# EAGLE library part GN?* (library relay)
ULTRA-SMALL PACKAGE SLIM POLARIZED RELAY NAiS Source: http://www.mew-europe.com/.. en_ds_61007_0000.pdf
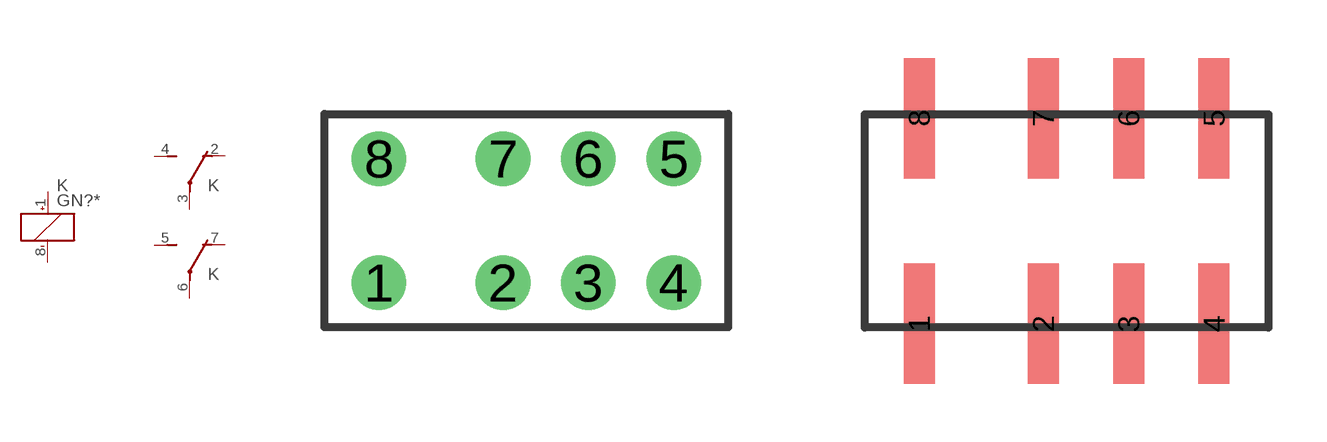
[diagram p58: symbol with the pads of GN; footprints GN, GN-A]

Designator prefix K; gates R=K+- S=U T=U

## GN20003 (MANUFACTURER: AROMAT/ MATSUSHITA; MPN: AGN20003; PART_STATUS: Obsolete), GN20006 (MANUFACTURER: AROMAT/ MATSUSHITA; MPN: AGN20006; PART_STATUS: Obsolete), GN20009 (MANUFACTURER: AROMAT/ MATSUSHITA; MPN: AGN20009; PART_STATUS: Obsolete), GN20012 (MANUFACTURER: AROMAT/ MATSUSHITA; MPN: AGN20012; PART_STATUS: Obsolete), GN2001H (MANUFACTURER: AROMAT/ MATSUSHITA; MPN: AGN2001H; PART_STATUS: Obsolete), GN20024 (MANUFACTURER: AROMAT/ MATSUSHITA; MPN: AGN20024; PART_STATUS: Obsolete), GN2004H (MANUFACTURER: AROMAT/ MATSUSHITA; MPN: AGN2004H; PART_STATUS: Obsolete)  [GN]
1  R:+  pas
2  S:O  pas
3  S:P  pas
4  S:S  pas
5  T:S  pas
6  T:P  pas
7  T:O  pas
8  R:-  pas

## GN21003 (MANUFACTURER: AROMAT/ MATSUSHITA; MPN: AGN21003; PART_STATUS: Obsolete), GN21006 (MANUFACTURER: AROMAT/ MATSUSHITA; MPN: AGN21006; PART_STATUS: Obsolete), GN21009 (MANUFACTURER: AROMAT/ MATSUSHITA; PART_STATUS: Obsolete), GN21012 (MANUFACTURER: AROMAT/ MATSUSHITA; MPN: AGN21012; PART_STATUS: Obsolete), GN2101H (MANUFACTURER: AROMAT/ MATSUSHITA; PART_STATUS: Obsolete), GN21024 (MANUFACTURER: AROMAT/ MATSUSHITA; PART_STATUS: Obsolete), GN2104H (MANUFACTURER: AROMAT/ MATSUSHITA; MPN: AGN2104H; PART_STATUS: Obsolete)  [GN]
1  R:-  pas
2  S:O  pas
3  S:P  pas
4  S:S  pas
5  T:S  pas
6  T:P  pas
7  T:O  pas
8  R:+  pas

## GN200A03 (MANUFACTURER: AROMAT/ MATSUSHITA; MPN: AGN200A03; PART_STATUS: Obsolete), GN200A06 (MANUFACTURER: AROMAT/ MATSUSHITA; MPN: AGN200A06; PART_STATUS: Obsolete), GN200A09 (MANUFACTURER: AROMAT/ MATSUSHITA; MPN: AGN200A09Z; PART_STATUS: Obsolete), GN200A12 (MANUFACTURER: AROMAT/ MATSUSHITA; MPN: AGN200A12; PART_STATUS: Obsolete), GN200A1H (MANUFACTURER: AROMAT/ MATSUSHITA; PART_STATUS: Obsolete), GN200A24 (MANUFACTURER: AROMAT/ MATSUSHITA; MPN: AGN200A24; PART_STATUS: Obsolete), GN200A4H (MANUFACTURER: AROMAT/ MATSUSHITA; MPN: AGN200A4H; PART_STATUS: Obsolete)  [GN-A]
Pads as for GN

## GN200S03 (MANUFACTURER: AROMAT/ MATSUSHITA; MPN: AGN200S03; PART_STATUS: Obsolete), GN200S06 (MANUFACTURER: AROMAT/ MATSUSHITA; PART_STATUS: Obsolete), GN200S09 (MANUFACTURER: AROMAT/ MATSUSHITA; PART_STATUS: Obsolete), GN200S12 (MANUFACTURER: AROMAT/ MATSUSHITA; MPN: AGN200S12; PART_STATUS: Obsolete), GN200S1H (MANUFACTURER: AROMAT/ MATSUSHITA; PART_STATUS: Obsolete), GN200S24 (MANUFACTURER: AROMAT/ MATSUSHITA; MPN: AGN200S24; PART_STATUS: Obsolete), GN200S4H (MANUFACTURER: AROMAT/ MATSUSHITA; MPN: AGN200S4H; PART_STATUS: Obsolete)  [GN-S]
Pads as for GN

## GN210A03 (MANUFACTURER: AROMAT/ MATSUSHITA; MPN: AGN210A03; PART_STATUS: Obsolete), GN210A06 (MANUFACTURER: AROMAT/ MATSUSHITA; PART_STATUS: Obsolete), GN210A09 (MANUFACTURER: AROMAT/ MATSUSHITA; PART_STATUS: Obsolete), GN210A12 (MANUFACTURER: AROMAT/ MATSUSHITA; MPN: AGN210A12; PART_STATUS: Obsolete), GN210A1H (MANUFACTURER: AROMAT/ MATSUSHITA; PART_STATUS: Obsolete), GN210A24 (MANUFACTURER: AROMAT/ MATSUSHITA; PART_STATUS: Obsolete), GN210A4H (MANUFACTURER: AROMAT/ MATSUSHITA; MPN: AGN210A4H; PART_STATUS: Obsolete)  [GN-A]
Pads as for GN

## GN210S03 (MANUFACTURER: AROMAT/ MATSUSHITA; MPN: AGN210S03; PART_STATUS: Obsolete), GN210S06 (MANUFACTURER: AROMAT/ MATSUSHITA; PART_STATUS: Obsolete), GN210S09 (MANUFACTURER: AROMAT/ MATSUSHITA; PART_STATUS: Obsolete), GN210S12 (MANUFACTURER: AROMAT/ MATSUSHITA; MPN: AGN210S12; PART_STATUS: Obsolete), GN210S1H (MANUFACTURER: AROMAT/ MATSUSHITA; PART_STATUS: Obsolete), GN210S24 (MANUFACTURER: AROMAT/ MATSUSHITA; PART_STATUS: Obsolete), GN210S4H (MANUFACTURER: AROMAT/ MATSUSHITA; PART_STATUS: Obsolete)  [GN-S]
Pads as for GN

## Footprint GN (pad centres in mm)
ULTRA-SMALL PACKAGE SLIM POLARIZED RELAY NAiS Source: http://www.mew-europe.com/.. en_ds_61007_0000.pdf
drill 0.9: 1 -3.835,-1.6; 2 -0.635,-1.6; 3 1.565,-1.6; 4 3.765,-1.6; 5 3.765,1.6; 6 1.565,1.6; 7 -0.635,1.6; 8 -3.835,1.6

## Footprint GN-A (pad centres in mm)
ULTRA-SMALL PACKAGE SLIM POLARIZED RELAY NAiS Source: http://www.mew-europe.com/.. en_ds_61007_0000.pdf
smd 0.8 x 3.1: 1 -3.835,-2.65; 2 -0.635,-2.65; 3 1.565,-2.65; 4 3.765,-2.65; 5 3.765,2.65; 6 1.565,2.65; 7 -0.635,2.65; 8 -3.835,2.65

## Footprint GN-S (pad centres in mm)
ULTRA-SMALL PACKAGE SLIM POLARIZED RELAY NAiS Source: http://www.mew-europe.com/.. en_ds_61007_0000.pdf
smd 0.8 x 2.25: 1 -3.835,-2.225; 2 -0.635,-2.225; 3 1.565,-2.225; 4 3.765,-2.225; 5 3.765,2.225; 6 1.565,2.225; 7 -0.635,2.225; 8 -3.835,2.225